# Altium schematic symbol library UC3843B.Schlib: 1 symbol
Pins are listed as number, name and electrical type; pins without a type are passive.

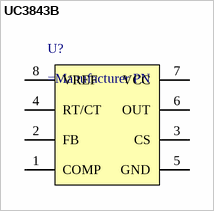
[diagram p0: symbol UC3843B]

## UC3843B
designator U?
REG, SW Flyback Adj, UC3843B
pins: 1 COMP, 2 FB, 3 CS, 4 RT/CT, 5 GND, 6 OUT, 7 VCC, 8 VREF